# EAGLE library part 82C88 (library micro-harris)
MICROCONTROLLER/MEMORY DEVICE
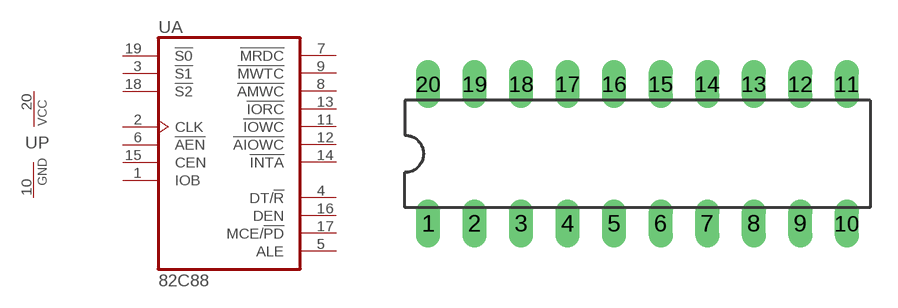
[diagram p0: symbol with the pads of DIL20; footprint DIL20]

Designator prefix U; gates A=82C88 P=PWRN

## 82C88 (MF: INTERSIL; MPN: CP82C88; OC_FARNELL: unknown; OC_NEWARK: 06F3294)  [DIL20]
1  A:IOB  in
2  A:CLK  in
3  A:!S1  in
4  A:DT/!R  out
5  A:ALE  out
6  A:!AEN  in
7  A:!MRDC  out
8  A:!AMWC  out
9  A:!MWTC  out
10  P:GND  pwr
11  A:!IOWC  out
12  A:!AIOWC  out
13  A:!IORC  out
14  A:!INTA  out
15  A:CEN  in
16  A:DEN  out
17  A:MCE/!PD  out
18  A:!S2  in
19  A:!S0  in
20  P:VCC  pwr

## Footprint DIL20 (pad centres in mm)
Dual In Line Package
drill 0.813 long: 1 -11.43,-3.81; 2 -8.89,-3.81; 3 -6.35,-3.81; 4 -3.81,-3.81; 5 -1.27,-3.81; 6 1.27,-3.81; 7 3.81,-3.81; 8 6.35,-3.81; 9 8.89,-3.81; 10 11.43,-3.81; 11 11.43,3.81; 12 8.89,3.81; 13 6.35,3.81; 14 3.81,3.81; 15 1.27,3.81; 16 -1.27,3.81; 17 -3.81,3.81; 18 -6.35,3.81; 19 -8.89,3.81; 20 -11.43,3.81